# Altium schematic symbol library Schlib_Murata.SchLib: 27 symbols
Pins are listed as number, name and electrical type; pins without a type are passive.

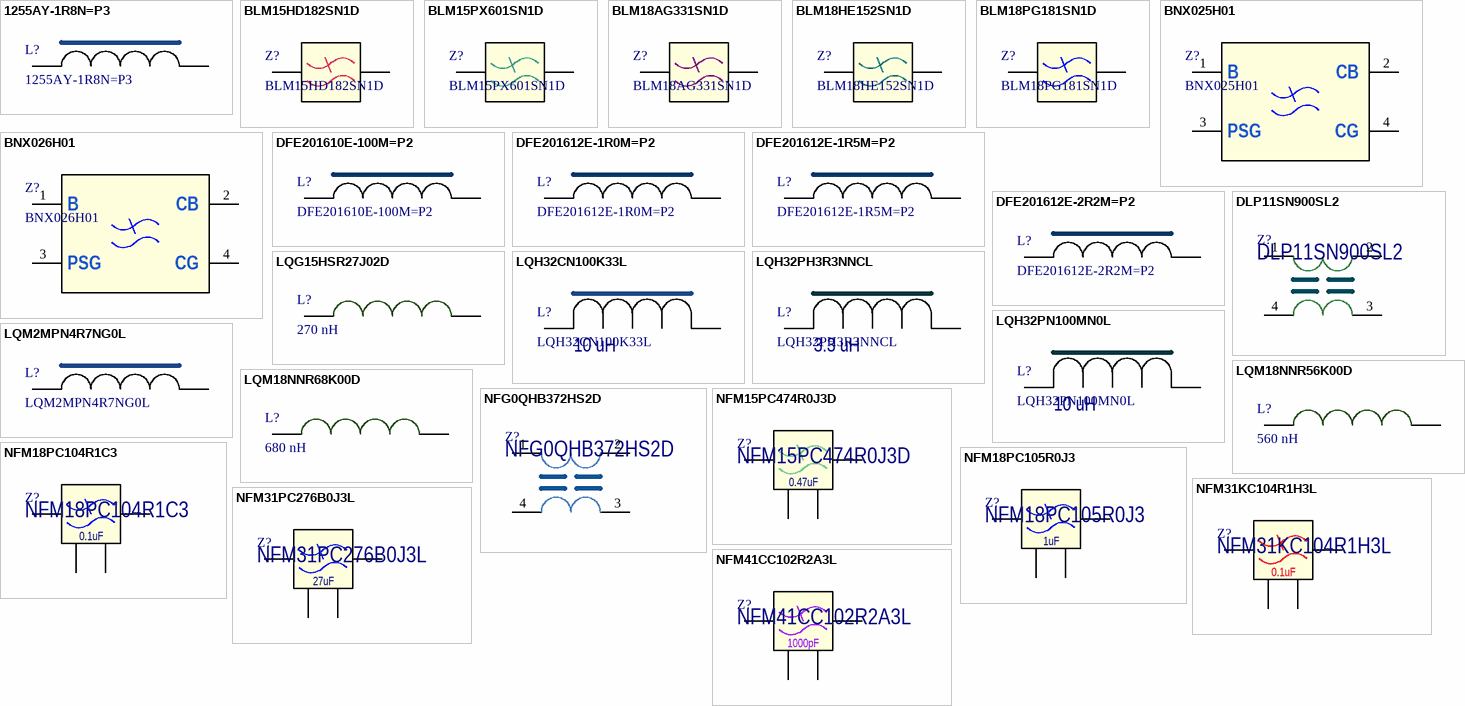
[diagram p0: symbols 1255AY-1R8N=P3 to NFM41CC102R2A3L]

## 1255AY-1R8N=P3
designator L?
Shielded SMD Power Inductors; Manufacturer: Murata; RDC: 14 Ohm; Irms  Max: 6.8 A; Inductance @ 100 kHz: 1.8 µH; Part Number: 1255AY-1R8N=P3; Package: 6.3x6.3mm
footprint 1255AY
pins: 1, 2

## BLM15HD182SN1D
designator Z?
Power line filter, imperdance 1800 Ohm @ 100 MHz (current 0.2A); Manufacturer: Murata; DCR: 2.2Ohm; Part Number: BLM15HD182SN1D; Package: 0402
footprint BLM0402P
pins: 1, 2

## BLM15PX601SN1D
designator Z?
Power line filter, imperdance 600 Ohm @ 100 MHz (current 0.9A); Manufacturer: Murata; DCR: 230 mOhm; Part Number: BLM15PX601SN1D; Package: 0402
footprint BLM0402L
pins: 1, 2

## BLM18AG331SN1D
designator Z?
Power line filter, imperdance 330 Ohm (current 05A); Manufacturer: Murata; Part Number: BLM18AG331SN1D; Package: 0603
footprint BLM0603P (Filter 0603)
pins: 1, 2

## BLM18HE152SN1D
designator Z?
Power line filter, imperdance 1500 Ohm @100MHz (current 0.5A); Manufacturer: Murata; Part Number: BLM18HE152SN1D; Package: 0603
footprint BLM0603C (Filter 0603)
pins: 1, 2

## BLM18PG181SN1D
designator Z?
Power line filter, imperdance 180 Ohm (current 1.5A); Manufacturer: Murata; Part Number: BLM18PG181SN1D; Package: 0603
footprint BLM0603B (Filter 0603)
pins: 1, 2

## BNX025H01
designator Z?
Block Type EMIFIL (LC Combined); Manufacturer: Murata; Part Number: BNX025H01
footprint BNX025
pins: 1 B, 2 CB, 3 PSG, 4 CG

## BNX026H01
designator Z?
Block Type EMIFIL (LC Combined); Manufacturer: Murata; Part Number: BNX026H01
footprint BNX02X
pins: 1 B, 2 CB, 3 PSG, 4 CG

## DFE201610E-100M=P2
designator L?
Shielded SMD Power Inductors; Manufacturer: Murata; RDC: 0.78 Ohm; Irms  Max: 1.0 A; Inductance @ 100 kHz: 10 µH; Part Number: DFE201610E-100M=P2; Package: 0806
footprint DFE2016
pins: 1, 2

## DFE201612E-1R0M=P2
designator L?
Shielded SMD Power Inductors; Manufacturer: Murata; RDC: 0.048 Ohm; Irms  Max: 4.0 A; Inductance @ 100 kHz: 1.0 µH; Part Number: DFE201612E-1R0M=P2; Package: 0806
footprint DFE2016
pins: 1, 2

## DFE201612E-1R5M=P2
designator L?
Shielded SMD Power Inductors; Manufacturer: Murata; RDC: 0.072 Ohm; Irms  Max: 3.2 A; Inductance @ 100 kHz: 1.5 µH; Part Number: DFE201612E-1R5M=P2; Package: 0806
footprint DFE2016
pins: 1, 2

## DFE201612E-2R2M=P2
designator L?
Shielded SMD Power Inductors; Manufacturer: Murata; RDC: 0.116 Ohm; Irms  Max: 2.4 A; Inductance @ 100 kHz: 2.2 µH; Part Number: DFE201612E-2R2M=P2; Package: 0806
footprint DFE2016
pins: 1, 2

## DLP11SN900SL2
designator Z?
Chip common mode choke coil; Manufacturer: Murata; Common Mode Impedance (at 100MHz/20°C): 90ohm±20%; Rated Current: 150mA; Part Number: DLP11SN900SL2; Package: 0504
footprint DLP11S
pins: 1 IN-, 2 OUT-, 3 OUT+, 4 IN+

## LQG15HSR27J02D
designator L?, comment 270 nH
RF Inductors; Part Number: LQG15HSR27J02D; Manufacturer: Murata; Tolerance: ± 5 %; Q: 8; Self resonance frequency: 400 MHz; Package: 0402; Value: 270 nH; Value on schem: 270 nH
footprint L0402 (RF inductor 0402)
pins: 1, 2

## LQH32CN100K33L
designator L?  Inductance @ 100 kHz: 10 uH
Shielded SMD Power Inductors; Manufacturer: Murata; RDC: 300 mOhm; SRF Min: 26 MHz; Irms  Max: 450 mA; Part Number: LQH32CN100K33L; Package: 3.2 x 2.5 mm
footprint LQH32 (Inductor 3.2mm x 2.5mm LQH32 Series)
pins: 1, 2

## LQH32PH3R3NNCL
designator L?  Inductance @ 100 kHz: 3.3 uH
Shielded SMD Power Inductors; Manufacturer: Murata; RDC: 120 mOhm; SRF Min: 50 MHz; Irms  Max: 1.55 A; Isat  Typ: 1.9 A; Part Number: LQH32PH3R3NNCL; Package: 3.2 x 2.5 mm
footprint LQH32 (Inductor 3.2mm x 2.5mm LQH32 Series)
pins: 1, 2

## LQH32PN100MN0L
designator L?  Inductance @ 100 kHz: 10 uH
Shielded SMD Power Inductors; Manufacturer: Murata; RDC: 456 mOhm; SRF Min: 30 MHz; Irms  Max: 700 mA; Isat  Typ: 750 mA; Part Number: LQH32PN100MN0L; Package: 3.2 x 2.5 mm
footprint LQH32 (Inductor 3.2mm x 2.5mm LQH32 Series)
pins: 1, 2

## LQM2MPN4R7NG0L
designator L?
Chip Inductors; Manufacturer: Murata; RDC: 0.14 Ohm; Irms  Max: 1.1 A; Inductance @ 100 kHz: 4.7 µH; Part Number: LQM2MPN4R7NG0L; Package: 0806
footprint L0806 (Inductor 0806)
pins: 1, 2

## LQM18NNR56K00D
designator L?, comment 560 nH
RF Inductors; Part Number: LQM18NNR56K00D; Manufacturer: Murata; Tolerance: ± 5 %; Q: 15; Self resonance frequency: 95 MHz; RDC: 1.55 Ohm; Package: 0603; Value: 560 nH; Value on schem: 560 nH
footprint L0603_LQM (RF Inductor 0603)
pins: 1, 2

## LQM18NNR68K00D
designator L?, comment 680 nH
RF Inductors; Part Number: LQM18NNR68K00D; Manufacturer: Murata; Tolerance: ± 5 %; Q: 15; Self resonance frequency: 90 MHz; RDC: 1.7 Ohm; Package: 0603; Value: 680 nH; Value on schem: 680 nH
footprint L0603_LQM (RF Inductor 0603)
pins: 1, 2

## NFG0QHB372HS2D
designator Z?
Common Mode Noise Filter; Manufacturer: Murata; Common Mode Impedance (at 100MHz/20°C): 9ohm; Rated Current: 100mA; Part Number: NFG0QHB372HS2D; Package: 0504
footprint NFG0QH
pins: 1 IN-, 2 OUT-, 3 OUT+, 4 IN+

## NFM15PC474R0J3D
designator Z?
Terminal Filter Capacitors 6.3VDC 2A; Manufacturer: Murata; Part Number: NFM15PC474R0J3D
footprint NFM0402 (3-terminal capacitor)
pins: 1 IN, 2 GND, 3 OUT, 4 GND
text: 0.47uF

## NFM18PC104R1C3
designator Z?
Terminal Filter Capacitors 16VDC 2A; Manufacturer: Murata; Part Number: NFM18PC104R1C3
footprint NFM0603 (3-terminal capacitor)
pins: 1 IN, 2 GND, 3 OUT, 4 GND
text: 0.1uF

## NFM18PC105R0J3
designator Z?
Terminal Filter Capacitors 6.3VDC 2A; Manufacturer: Murata; Part Number: NFM18PC105R0J3
footprint NFM0603 (3-terminal capacitor)
pins: 1 IN, 2 GND, 3 OUT, 4 GND
text: 1uF

## NFM31KC104R1H3L
designator Z?
Terminal Filter Capacitors 50VDC 6A; Manufacturer: Murata; Part Number: NFM31KC104R1H3L; Package: 1206
footprint NFM1206 (3-terminal capacitor)
pins: 1 IN, 2 GND, 3 OUT, 4 GND
text: 0.1uF

## NFM31PC276B0J3L
designator Z?
Terminal Filter Capacitors 6.3VDC 6A; Manufacturer: Murata; Part Number: NFM31PC276B0J3L; Package: 1206
footprint NFM1206 (3-terminal capacitor)
pins: 1 IN, 2 GND, 3 OUT, 4 GND
text: 27uF

## NFM41CC102R2A3L
designator Z?
Terminal Filter Capacitors 100VDC 300mA; Manufacturer: Murata; Part Number: NFM41CC102R2A3L; Package: NFM41C
footprint NFM41CC (3-terminal capacitor)
pins: 1 IN, 2 GND, 3 OUT, 4 GND
text: 1000pF